# EAGLE library part BQ24075RGTR (library BQ24075RGTR)
Standalone 1-cell 1.5-A linear charger, Power Path, 4.2-V VBAT and 5.5-V VOUT 16-VQFN -40 to 85 Check availability <https://pricing.snapeda.com/parts/BQ24075RGTR/Texas%20Instruments/view-part?ref=eda>
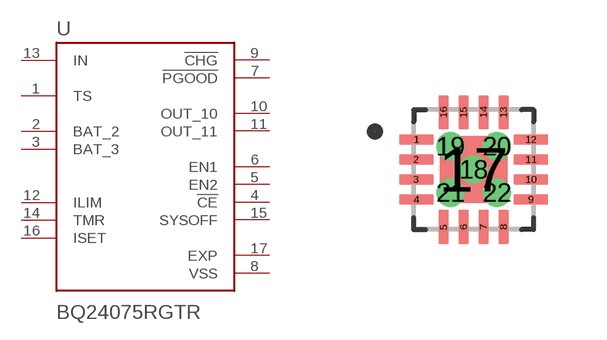
[diagram p0: symbol with the pads of QFN50P300X300X100-17N; footprint QFN50P300X300X100-17N]

Designator prefix U

## BQ24075RGTR (Availability: In Stock; Description: Standalone 1-cell 1.5-A linear battery charger, Power Path, 4.2-V VBAT and 5.5-V VOUT; MF: Texas Instruments; MP: BQ24075RGTR; Package: VQFN-16 Texas Instruments; Price: None; Purchase-URL: https://pricing.snapeda.com/search/part/BQ24075RGTR/?ref=eda)  [QFN50P300X300X100-17N]
1  TS  in
2  BAT_2
3  BAT_3
4  !CE  in
5  EN2  in
6  EN1  in
7  !PGOOD  out
8  VSS  pwr
9  !CHG  out
10  OUT_10  out
11  OUT_11  out
12  ILIM  in
13  IN  in
14  TMR  in
15  SYSOFF  in
16  ISET
17  EXP  pwr

## Footprint QFN50P300X300X100-17N (pad centres in mm)
smd 0.86 x 0.26: 1 -1.435,0.75; 2 -1.435,0.25; 3 -1.435,-0.25; 4 -1.435,-0.75; 9 1.435,-0.75; 10 1.435,-0.25; 11 1.435,0.25; 12 1.435,0.75
smd 0.26 x 0.86: 5 -0.75,-1.435; 6 -0.25,-1.435; 7 0.25,-1.435; 8 0.75,-1.435; 13 0.75,1.435; 14 0.25,1.435; 15 -0.25,1.435; 16 -0.75,1.435
smd 1.68 x 1.68: 17 0,0
drill 0.2 pad 0.4: 18 0,0; 19 -0.58,0.58; 20 0.58,0.58; 21 -0.58,-0.58; 22 0.58,-0.58